# Altium footprint library syhaunguyen.PcbLib: 329 footprints (part 8 of 21)
Each footprint in its own frame and in the unit in brackets; x right, y up, seen from the top. Pads: shape width x height; smd on the part's side, far side on the other; paste and mask are expansions set on the pad; w line width, h text height; cw(c..) or ccw(c..) is an arc to the next point about the centre after c.
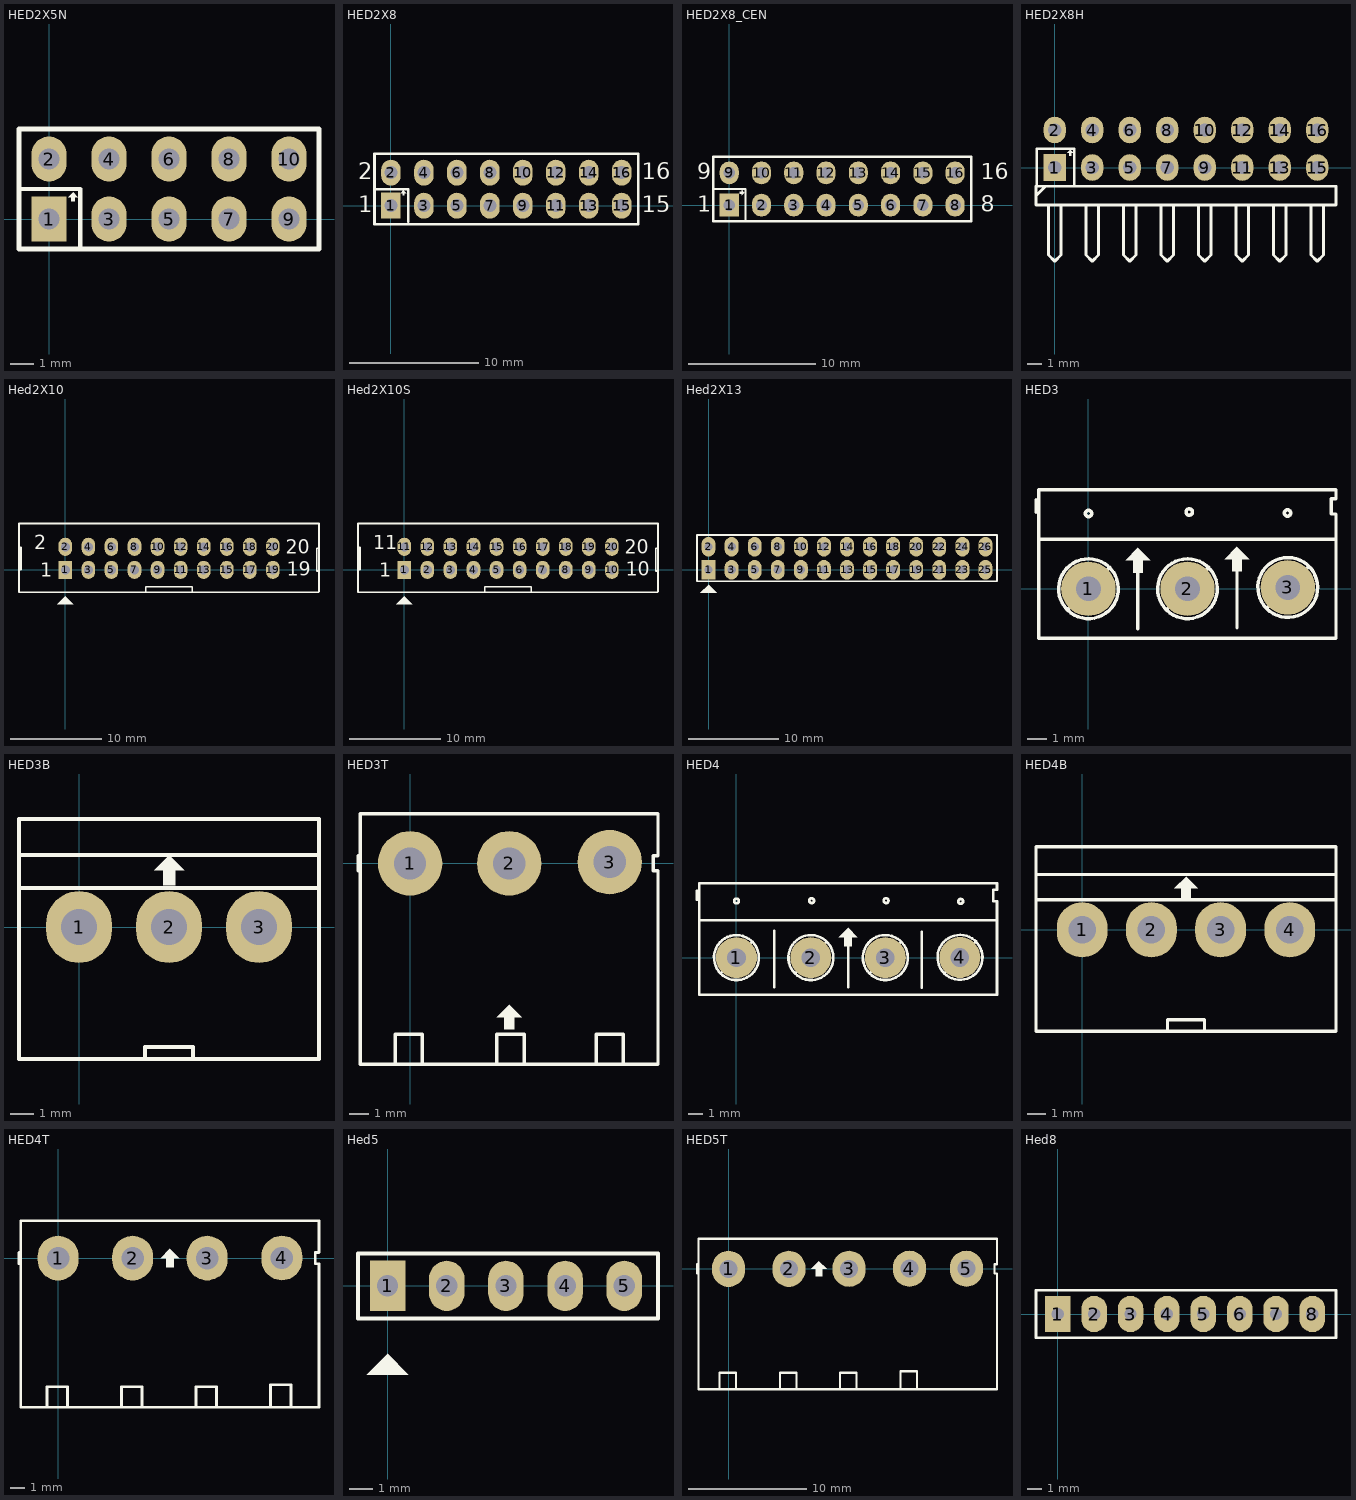
[diagram p7: the footprints below, top view; thin cyan lines are the x and y axes]

## HED2X5N [mm] "Connector; Header; 5x2 Position"
pads (10):
  rect 1.5x1.9 hole 0.9: 1(0,0)
  oval 1.5x1.9 hole 0.9: 2(0,2.54) 3(2.54,0) 4(2.54,2.54) 5(5.08,0) 6(5.08,2.54) 7(7.62,0) 8(7.62,2.54) 9(10.16,0) 10(10.16,2.54)
Top Overlay:
  region: 0.94,0.749 0.94,0.927 0.813,0.927 1.016,1.13 1.219,0.927 1.092,0.927 1.092,0.749
  lines w0.178: -1.245,1.27 1.321,1.27 1.321,1.143 1.321,-1.245
  lines w0.2: -1.27,-1.27 -1.27,3.81 11.43,3.81 11.43,-1.27 -1.27,-1.27

## HED2X8 [mm] "Connector; Header; 8x2 Position"
pads (16):
  rect 1.5x2 hole 1: 1(0,0)
  oval 1.5x2 hole 1: 2(0,2.54) 3(2.54,0) 4(2.54,2.54) 5(5.08,0) 6(5.08,2.54) 7(7.62,0) 8(7.62,2.54) 9(10.16,0) 10(10.16,2.54) 11(12.7,0) 12(12.7,2.54) 13(15.24,0) 14(15.24,2.54) 15(17.78,0) 16(17.78,2.54)
Top Overlay:
  region: 0.889,0.787 0.889,0.965 0.762,0.965 0.965,1.168 1.168,0.965 1.041,0.965 1.041,0.787
  lines w0.178: -1.219,1.295 -1.194,1.27 1.321,1.27 1.321,-1.245
  lines w0.2: -1.27,-1.422 -1.27,3.988 19.05,3.988 19.05,-1.422 -1.27,-1.422
  text "2" at -2.54,2.032 h1.27
  text "1" at -2.54,-0.508 h1.27
  text "15" at 19.304,-0.508 h1.27
  text "16" at 19.304,2.032 h1.27

## HED2X8_CEN [mm] "Connector; Header; 8x2 Position"
pads (16):
  rect 1.5x1.8 hole 0.9: 1(0,0)
  oval 1.5x1.8 hole 0.9: 2(2.54,0) 3(5.08,0) 4(7.62,0) 5(10.16,0) 6(12.7,0) 7(15.24,0) 8(17.78,0) 9(0,2.54) 10(2.54,2.54) 11(5.08,2.54) 12(7.62,2.54) 13(10.16,2.54) 14(12.7,2.54) 15(15.24,2.54) 16(17.78,2.54)
Top Overlay:
  region: 0.813,1.067 0.991,1.067 0.991,1.194 1.194,0.991 0.991,0.787 0.991,0.914 0.813,0.914
  lines w0.178: -1.27,1.27 1.27,1.27 1.27,-1.27
  lines w0.2: -1.27,-1.27 19.05,-1.27 19.05,3.81 -1.27,3.81 -1.27,-1.27
  text "16" at 19.812,2.032 h1.27
  text "8" at 19.812,-0.508 h1.27
  text "1" at -2.54,-0.508 h1.27
  text "9" at -2.54,2.032 h1.27

## HED2X8H [mm] "Connector; Header; 8x2 Position; Right Angle"
pads (16):
  rect 1.5x1.8 hole 0.9: 1(0,0)
  oval 1.5x1.8 hole 0.9: 2(0,2.54) 3(2.54,0) 4(2.54,2.54) 5(5.08,0) 6(5.08,2.54) 7(7.62,0) 8(7.62,2.54) 9(10.16,0) 10(10.16,2.54) 11(12.7,0) 12(12.7,2.54) 13(15.24,0) 14(15.24,2.54) 15(17.78,0) 16(17.78,2.54)
Top Overlay:
  region: 0.965,0.813 0.965,0.991 0.838,0.991 1.041,1.194 1.245,0.991 1.118,0.991 1.118,0.813
  lines w0.178: -1.219,-1.194 -1.219,1.27 1.321,1.27 1.321,-1.27
  lines w0.2: -1.27,-1.905 -0.635,-1.27 ; -0.423,-2.54 -0.423,-5.927 0,-6.35 0.423,-5.927 0.423,-2.54 ; 2.117,-2.54 2.117,-5.927 2.54,-6.35 2.963,-5.927 2.963,-2.54 ; 4.657,-2.54 4.657,-5.927 5.08,-6.35 5.503,-5.927 5.503,-2.54 ; 7.197,-2.54 7.197,-5.927 7.62,-6.35 8.043,-5.927 8.043,-2.54 ; 9.737,-2.54 9.737,-5.927 10.16,-6.35 10.583,-5.927 10.583,-2.54 ; 12.277,-2.54 12.277,-5.927 12.7,-6.35 13.123,-5.927 13.123,-2.54 ; 14.817,-2.54 14.817,-5.927 15.24,-6.35 15.663,-5.927 15.663,-2.54 ; 17.357,-2.54 17.357,-5.927 17.78,-6.35 18.203,-5.927 18.203,-2.54 ; -1.27,-2.54 19.05,-2.54 19.05,-1.27 -1.27,-1.27 -1.27,-2.54

## Hed2X10 [mm] "Header 10x2,20 pin, connecter"
height 7.62
pads (20):
  rect 1.5x2 hole 1: 1(0,0)
  oval 1.5x2 hole 1: 2(0,2.54) 3(2.54,0) 4(2.54,2.54) 5(5.08,0) 6(5.08,2.54) 7(7.62,0) 8(7.62,2.54) 9(10.16,0) 10(10.16,2.54) 11(12.7,0) 12(12.7,2.54) 13(15.24,0) 14(15.24,2.54) 15(17.78,0) 16(17.78,2.54) 17(20.32,0) 18(20.32,2.54) 19(22.86,0) 20(22.86,2.54)
Top Overlay:
  region: 0,-2.921 -0.889,-3.81 0.889,-3.81
  lines w0.178: -5.1,-0.025 -5.075,0 -4.875,0 -4.875,2.475 -5.1,2.475 ; 8.875,-2.475 8.875,-1.875 13.975,-1.875 13.975,-2.425 14.025,-2.475 ; 27.94,-0.127 27.686,-0.127 27.686,2.398 27.94,2.398 ; 27.94,5.08 27.94,-2.413 27.878,-2.475 -5.1,-2.475 -5.1,5.1 27.94,5.1
  text "1" at -2.775,-0.75 h1.52
  text "2" at -3.429,2.286 h1.52
  text "19" at 24.384,-0.635 h1.52
  text "20" at 24.257,1.778 h1.52

## Hed2X10S [mm] "Header 10x2,20 pin, connecter"
height 7.62
pads (20):
  rect 1.5x2 hole 1: 1(0,0)
  oval 1.5x2 hole 1: 2(2.54,0) 3(5.08,0) 4(7.62,0) 5(10.16,0) 6(12.7,0) 7(15.24,0) 8(17.78,0) 9(20.32,0) 10(22.86,0) 11(0,2.54) 12(2.54,2.54) 13(5.08,2.54) 14(7.62,2.54) 15(10.16,2.54) 16(12.7,2.54) 17(15.24,2.54) 18(17.78,2.54) 19(20.32,2.54) 20(22.86,2.54)
Top Overlay:
  region: 0,-2.921 -0.889,-3.81 0.889,-3.81
  lines w0.178: -5.1,-0.025 -5.075,0 -4.875,0 -4.875,2.475 -5.1,2.475 ; 8.875,-2.475 8.875,-1.875 13.975,-1.875 13.975,-2.425 14.025,-2.475 ; 27.94,-0.127 27.686,-0.127 27.686,2.398 27.94,2.398 ; 27.94,5.08 27.94,-2.413 27.878,-2.475 -5.1,-2.475 -5.1,5.1 27.94,5.1
  text "1" at -2.775,-0.75 h1.52
  text "11" at -3.429,2.286 h1.52
  text "10" at 24.384,-0.635 h1.52
  text "20" at 24.257,1.778 h1.52

## Hed2X13 [mil] "Header 13x2,26 pin, connecter"
pads (26):
  rect 60x85 hole 36: 1(0,0)
  oval 60x85 hole 36: 2(0,100) 3(100,0) 4(100,100) 5(200,0) 6(200,100) 7(300,0) 8(300,100) 9(400,0) 10(400,100) 11(500,0) 12(500,100) 13(600,0) 14(600,100) 15(700,0) 16(700,100) 17(800,0) 18(800,100) 19(900,0) 20(900,100) 21(1000,0) 22(1000,100) 23(1100,0) 24(1100,100) 25(1200,0) 26(1200,100)
Top Overlay:
  region: 0,-65 -35,-100 35,-100
  lines w8: -50,-50 -50,150 1250,150 1250,-50 -50,-50

## HED3 [mil] "Header 3, 3 pin, hight 300mil, Pin to Pin 200, Colour Green"
height 300
pads (3):
  round 110 hole 50: 1(0,0) 2(200,0) 3(402.62,2.62)
Top Overlay:
  circle w7: c402,153 r6.4
  circle w7: c0,152 r6.4
  circle w7: c203.6,155 r6.4
  region: 300,85 275,60 290,60 290,35 310,35 310,60 325,60
  region: 100,82.5 75,57.5 90,57.5 90,32.5 110,32.5 110,57.5 125,57.5
  lines w7: -106,155 -106,180 ; -100,100 500,100 ; -42,-42 43,43 ; 39.44,45.71 ccw(c0,0) 44.97,40.28 ; 100,-81 100,70 ; 158.5,-41.5 243,43 ; 238.89,46.18 ccw(c200,0) 245.38,39.82 ; 300,-79 300,72 ; 360,-39 445,45 ; 441.65,48.68 ccw(c402.62,2.62) 448.22,42.19 ; -100,-100 500,-100 500,151 490,151 490,182 500,182 500,200 -100,200 -100,50 -100,-100

## HED3B [mil] "Header 3, 3 pin, hight 300mil, Pin to Pin 150, Colour White"
height 300
pads (3):
  oval 110x120 hole 60: 1(0,0) 2(150,0) 3(300,0)
Top Overlay:
  region: 150,120 125,95 140,95 140,70 160,70 160,95 175,95
  lines w7: -100,65 400,65 ; -100,120 400,120 ; 110,-220 110,-200 190,-200 190,-220 ; -100,-220 400,-220 400,180 -100,180 -100,-220
3D body: height 285.43, standoff -133.86, extent -104.36,-221.14 400.36,145

## HED3T [mil] "Header 3, 3 pin, hight 300mil, Pin to Pin 200, Colour Green"
height 300
pads (3):
  round 130 hole 65: 1(0,0) 2(200,0) 3(402.62,2.62)
Top Overlay:
  region: 200,-285 175,-310 190,-310 190,-335 210,-335 210,-310 225,-310
  lines w7: -105,-15 -105,15 ; -30,-400 -30,-345 25,-345 25,-400 ; 175,-400 175,-345 230,-345 230,-400 ; 375,-400 375,-345 430,-345 430,-400 ; -100,-405 500,-405 500,-15 490,-15 490,15 500,15 500,100 -100,100 -100,-405
3D body: height 124.02, standoff -366.97, extent -95,-404 101.85,68.44
3D body: height 124.02, standoff -366.97, extent 102,-404 298.85,68.44
3D body: height 124.02, standoff -366.97, extent 299,-404.22 495.85,68.22

## HED4 [mil] "Header 4, 4 pin, hight 300mil, Pin to Pin 200, Colour Green"
height 300
pads (4):
  round 110 hole 50: 1(0,0) 2(200,0) 3(400.06,0.06) 4(600.39,0.39)
Top Overlay:
  circle w7: c202,153 r6.4
  circle w7: c0,152 r6.4
  circle w7: c402,153 r6.4
  circle w7: c602.6,151 r6.4
  region: 300,80 275,55 290,55 290,30 310,30 310,55 325,55
  lines w7: -106,155 -106,180 ; -100,100 700,100 ; -42,-42 43,43 ; 39.04,46.05 ccw(c0,0) 45.18,40.05 ; 102,-79 102,72 ; 158,-42 242.5,42.5 ; 239.76,45.44 ccw(c200,0) 245.18,40.05 ; 300,-79 300,40 ; 358.5,-41.5 442.5,42.5 ; 439.27,45.97 ccw(c400.06,0.06) 445.19,40.17 ; 497.97,-81.03 497.97,69.97 ; 559,-41 643.5,43.5 ; 640.16,46.18 ccw(c600.59,0.59) 646.12,40.23 ; -100,-100 -100,50 -100,200 700,200 700,182 690,182 690,151 700,151 700,-100 -100,-100

## HED4B [mil] "Header 4, 4 pin, hight 300mil, Pin to Pin 150, Colour White"
height 300
pads (4):
  oval 110x120 hole 60: 1(0,0) 2(150,0) 3(300,0) 4(450,0)
Top Overlay:
  region: 225,115 200,90 215,90 215,65 235,65 235,90 250,90
  lines w7: -100,65 550,65 ; -100,120 550,120 ; 185,-215 185,-195 265,-195 265,-215 ; -100,-220 550,-220 550,180 -100,180 -100,-220

## HED4T [mil] "Header 4, 4 pin, hight 300mil, Pin to Pin 200, Colour Green"
height 300
pads (4):
  oval 110x120 hole 60: 1(0,0) 2(200,0) 3(400.06,0.06) 4(600.39,0.39)
Top Overlay:
  region: 300,25 275,0 290,0 290,-25 310,-25 310,0 325,0
  lines w7: -105,-15 -105,15 ; -30,-400 -30,-345 25,-345 25,-400 ; 170,-400 170,-345 225,-345 225,-400 ; 370,-400 370,-345 425,-345 425,-400 ; 570,-395 570,-340 625,-340 625,-395 ; -100,-400 -100,100 700,100 700,15 690,15 690,-15 700,-15 700,-400 -100,-400
3D body: height 334.11, standoff -156.88, extent -96.85,-402.44 100,70
3D body: height 334.11, standoff -156.88, extent 293.15,-402.44 490,70
3D body: height 334.11, standoff -156.88, extent 488.15,-402.44 685,70
3D body: height 334.11, standoff -156.88, extent 98.15,-402.44 295,70

## Hed5 [mil] "Header 5, 5 pin, connecter 100mil"
height 300
pads (5):
  rect 60x85 hole 36: 1(0,0)
  oval 60x85 hole 36: 2(100,0) 3(200,0) 4(300,0) 5(400,0)
Top Overlay:
  region: 0,-115 -35,-150 35,-150
  lines w7: -50,-55 -50,55 457,55 457,-55 -50,-55

## HED5T [mil]
pads (5):
  oval 110x120 hole 60: 1(0,0) 2(200,0) 3(400.06,0.06) 4(600.39,0.39) 5(789.39,0.39)
Top Overlay:
  region: 300,25 275,0 290,0 290,-25 310,-25 310,0 325,0
  lines w7: -105,-15 -105,15 ; -30,-400 -30,-345 25,-345 25,-400 ; 170,-400 170,-345 225,-345 225,-400 ; 370,-400 370,-345 425,-345 425,-400 ; 570,-395 570,-340 625,-340 625,-395 ; -100,-400 -100,100 891,100 891,15 883,15 883,-15 891,-15 891,-400 -100,-400
3D body: height 334.11, standoff -156.88, extent -96.85,-402.44 100,70
3D body: height 334.11, standoff -156.88, extent 293.15,-402.44 490,70
3D body: height 334.11, standoff -156.88, extent 488.15,-402.44 685,70
3D body: height 334.11, standoff -156.88, extent 98.15,-402.44 295,70
3D body: height 334.11, standoff -156.88, extent 685.15,-402.44 882,70

## Hed8 [mil] "CON8"
height 200
pads (8):
  rect 70x100 hole 34: 1(0,0)
  oval 70x100 hole 34: 2(100,0) 3(200,0) 4(300,0) 5(400,0) 6(500,0) 7(600,0) 8(700,0)
Top Overlay:
  lines w7: -60,-65 765,-65 765,65 -60,65 -60,-65